# Altium footprint library rtc.PcbLib: 3 footprints
Each footprint in its own frame and in the unit in brackets; x right, y up, seen from the top. Pads: shape width x height; smd on the part's side, far side on the other; paste and mask are expansions set on the pad; w line width, h text height; cw(c..) or ccw(c..) is an arc to the next point about the centre after c.
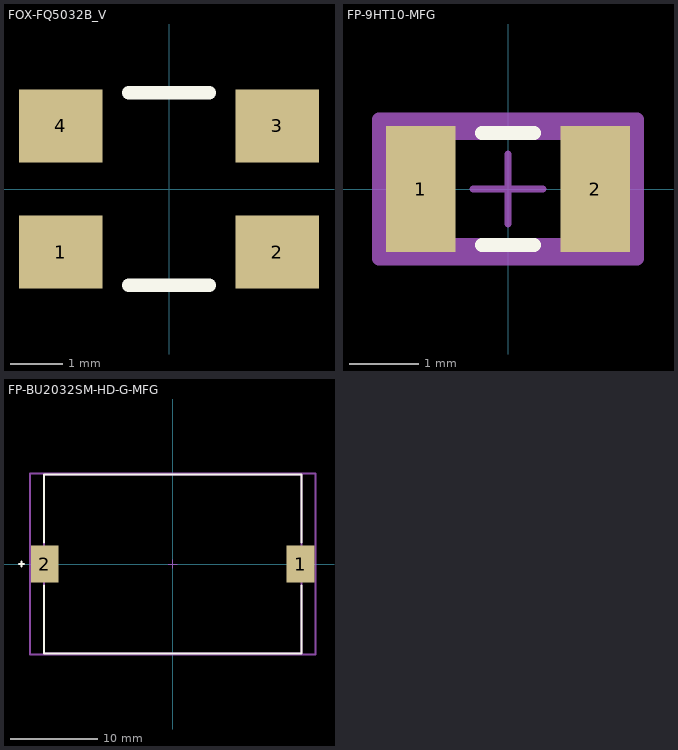
[diagram p0: the footprints below, top view; thin cyan lines are the x and y axes]

## FOX-FQ5032B_V [mil] "SMT Crystal, 4-Leads, Body 5.2x3.4mm"
pads (4):
  rect 63x55 smd: 1(-81.5,-47.5) 2(81.5,-47.5) 3(81.5,47.5) 4(-81.5,47.5)
Top Overlay:
  lines w10: -30.5,-72.5 30.5,-72.5 ; -30.5,72.5 30.5,72.5
3D body: height 47.24, standoff 0, extent -114.46,-46.87 113.11,46.73
3D body: height 19.68, standoff 0, extent 62.19,-52.22 97.74,-26.01
3D body: height 19.68, standoff 0, extent -103.01,-51.67 -67.46,-25.46
3D body: height 19.68, standoff 0, extent 67.17,24.91 102.72,51.12
3D body: height 19.68, standoff 0, extent -97.83,24.91 -62.28,51.12

## FP-9HT10-MFG [mm]
pads (2):
  rect 1x1.8 smd paste+0 mask+0: 1(-1.25,0) 2(1.25,0)
Top Overlay:
  lines w0.2: -0.375,-0.8 0.375,-0.8 ; -0.375,0.8 0.375,0.8
Mechanical 5:
  lines w0.2: -1.85,-1 1.85,-1 1.85,1 -1.85,1 -1.85,-1
  text ".Designator" at 0,0.188 h1
Mechanical 13:
  lines w0.2: -1.65,-0.8 1.65,-0.8 1.65,0.8 -1.65,0.8 -1.65,-0.8
Mechanical 15:
  lines w0.2: -1.85,-1 1.85,-1 1.85,1 -1.85,1 -1.85,-1
Mechanical 16:
  lines w0.1: -0.5,0 0.5,0 ; 0,-0.5 0,0.5
3D body "Crys_TXC_9HT10-32_768KBZY-T_eec.STEP": height 0.25, standoff 0, extent -1.85,-1 1.85,1

## FP-BU2032SM-HD-G-MFG [mm]
pads (2):
  rect 3.2x4.2 smd paste+0 mask+0: 1(14.65,0) 2(-14.65,0)
Top Overlay:
  lines w0.2: -17.6,0 -17,0 ; -17.3,-0.3 -17.3,0.3 ; -14.75,-2.475 -14.75,-10.25 14.75,-10.25 14.75,-2.475 ; -14.75,2.475 -14.75,10.25 14.75,10.25 14.75,2.475
Mechanical 5:
  lines w0.2: -16.35,-10.35 -16.35,10.35 16.35,10.35 16.35,-10.35 -16.35,-10.35
  text ".Designator" at 0,-0.001 h1
Mechanical 13:
  lines w0.2: -14.75,-10.25 -14.75,10.25 14.75,10.25 14.75,-10.25 -14.75,-10.25
Mechanical 15:
  lines w0.2: -16.35,-10.35 -16.35,10.35 16.35,10.35 16.35,-10.35 -16.35,-10.35
Mechanical 16:
  lines w0.1: -0.5,0 0.5,0 ; 0,-0.5 0,0.5
3D body "Batt_Memory_Protection_Devices_BU2032SM-HD-G_eec.STEP": height 0.25, standoff 0, extent -16.35,-10.35 16.35,10.35